# Altium footprint library XMAS_2023_PCBlib.PcbLib: 37 footprints (part 3 of 3)
Each footprint in its own frame and in the unit in brackets; x right, y up, seen from the top. Pads: shape width x height; smd on the part's side, far side on the other; paste and mask are expansions set on the pad; w line width, h text height; cw(c..) or ccw(c..) is an arc to the next point about the centre after c.
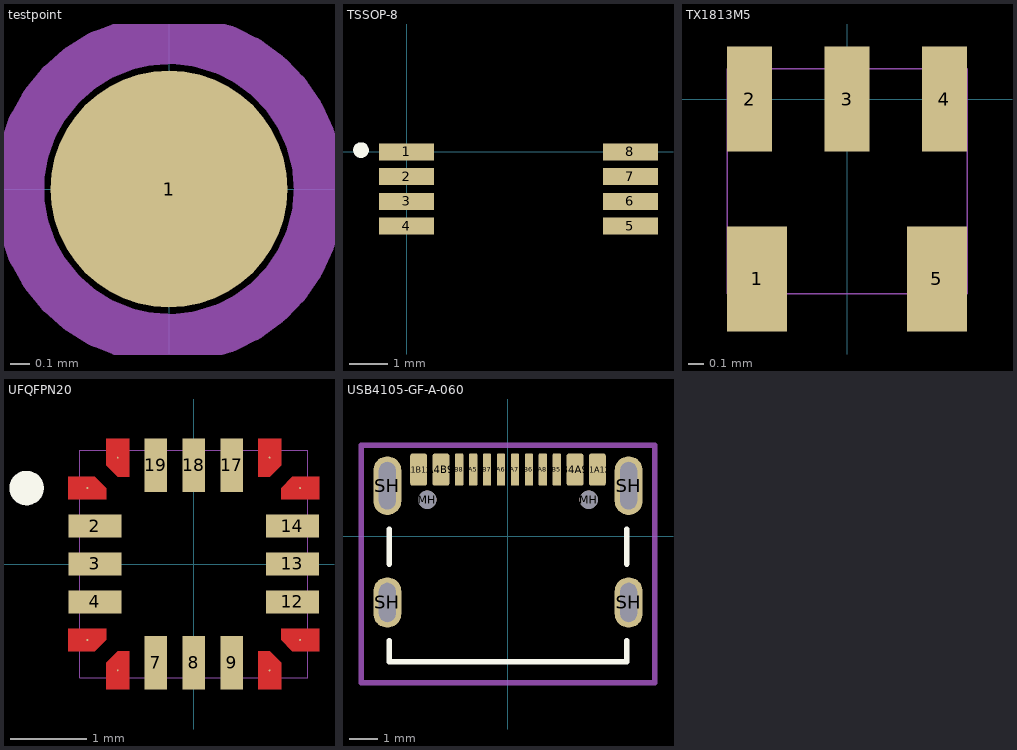
[diagram p2: the footprints below, top view; thin cyan lines are the x and y axes]

## testpoint [mm] "Reference point"
pads (1):
  round 1.2 smd paste-0.6: 1(0,0)
Mechanical 1:
  circle w0.254: c0,0 r0.76
3D body: height 0.03, standoff 0, extent -0.604,-0.588 0.596,0.612

## TSSOP-8 [mm]
pads (8):
  rect 1.45x0.45 smd mask+0.05: 1(0,0) 2(0,-0.65) 3(0,-1.3) 4(0,-1.95) 5(5.9,-1.95) 6(5.9,-1.3) 7(5.9,-0.65) 8(5.9,0)
Top Overlay:
  circle w0.254: c-1.2,0.05 r0.079
3D body "tssop8_model.STEP": height 1.11, standoff 0.01, extent -0.24,-2.477 6.16,0.523

## TX1813M5 [mm]
pads (5):
  rect 0.4x0.7 smd mask+0.05: 1(-0.6,-1.2) 5(0.6,-1.2)
  rect 0.3x0.7 smd mask+0.05: 2(-0.65,0) 3(0,0) 4(0.65,0)
Mechanical 1:
  lines w0.01: -0.8,-1.3 0.8,-1.3 0.8,0.2 -0.8,0.2 -0.8,-1.3
3D body: height 0.68, standoff 0, extent -0.8,-1.3 0.8,0.2

## UFQFPN20 [mm]
pads (20):
  round 0.025 smd mask+0.05: 1(-1.4,1) 5(-1.4,-1) 6(-1,-1.4) 10(1,-1.4) 11(1.4,-1) 15(1.4,1) 16(1,1.4) 20(-1,1.4)
  rect 0.7x0.3 smd mask+0.05: 2(-1.3,0.5) 3(-1.3,0) 4(-1.3,-0.5) 12(1.3,-0.5) 13(1.3,0) 14(1.3,0.5)
  rect 0.3x0.7 smd mask+0.05: 7(-0.5,-1.3) 8(0,-1.3) 9(0.5,-1.3) 17(0.5,1.3) 18(0,1.3) 19(-0.5,1.3)
Top Layer:
  region: 1,1.15 0.85,1.15 0.85,1.65 1.15,1.65 1.15,1.3
  region: 1.65,1.15 1.65,0.85 1.15,0.85 1.15,1 1.3,1.15
  region: 1.65,-0.85 1.65,-1.15 1.3,-1.15 1.15,-1 1.15,-0.85
  region: 1.15,-1.65 0.85,-1.65 0.85,-1.15 1,-1.15 1.15,-1.3
  region: -0.85,-1.65 -1.15,-1.65 -1.15,-1.3 -1,-1.15 -0.85,-1.15
  region: -1.3,-1.15 -1.15,-1 -1.15,-0.85 -1.65,-0.85 -1.65,-1.15
  region: -1.15,1 -1.15,0.85 -1.65,0.85 -1.65,1.15 -1.3,1.15
  region: -1.15,1.3 -1,1.15 -0.85,1.15 -0.85,1.65 -1.15,1.65
Top Overlay:
  circle w0.254: c-2.2,1 r0.1
Mechanical 1:
  lines w0.001: -1.5,-1.5 1.5,-1.5 1.5,1.5 -1.5,1.5 -1.5,-1.5
3D body: height 0.53, standoff 0.02, extent -1.5,-1.5 1.5,1.5

## USB4105-GF-A-060 [mm]
pads (18):
  rrect25% 0.6x1.15 smd mask+0.05: A1B12(-3.2,2.378) A4B9(-2.4,2.378) B1A12(3.2,2.378) B4A9(2.4,2.378)
  rrect25% 0.3x1.15 smd mask+0.05: A5(-1.25,2.378) A6(-0.25,2.378) A7(0.25,2.378) A8(1.25,2.378) B5(1.75,2.378) B6(0.75,2.378) B7(-0.75,2.378) B8(-1.75,2.378)
  round 0.65 hole 0.65 unplated mask+0.05: MH(-2.89,1.303) MH(2.89,1.303)
  oval 1x1.8 hole 0.6 slot 1.4 at 90 deg: SH(-4.32,-2.377) SH(4.32,-2.377)
  oval 1x2.1 hole 0.6 slot 1.7 at 90 deg: SH(-4.32,1.803) SH(4.32,1.803)
Top Overlay:
  lines w0.2: -4.25,-3.75 -4.25,-4.5 4.25,-4.5 4.25,-3.75 ; -4.25,-1 -4.25,0.25 ; 4.25,-1 4.25,0.25
Mechanical 13:
  lines w0.2: -5.25,-5.25 5.25,-5.25 5.25,3.25 -5.25,3.25 -5.25,-3 -5.25,-5.25
  text "'.Designator'" at -5.84,-0.925 h1
3D body "USB4105-GF-A-060.stp": height 3.27, standoff -0.61, extent -4.47,-4.972 4.47,2.728